# Altium footprint library PcbLib1.PcbLib: 8 footprints
Each footprint in its own frame and in the unit in brackets; x right, y up, seen from the top. Pads: shape width x height; smd on the part's side, far side on the other; paste and mask are expansions set on the pad; w line width, h text height; cw(c..) or ccw(c..) is an arc to the next point about the centre after c.
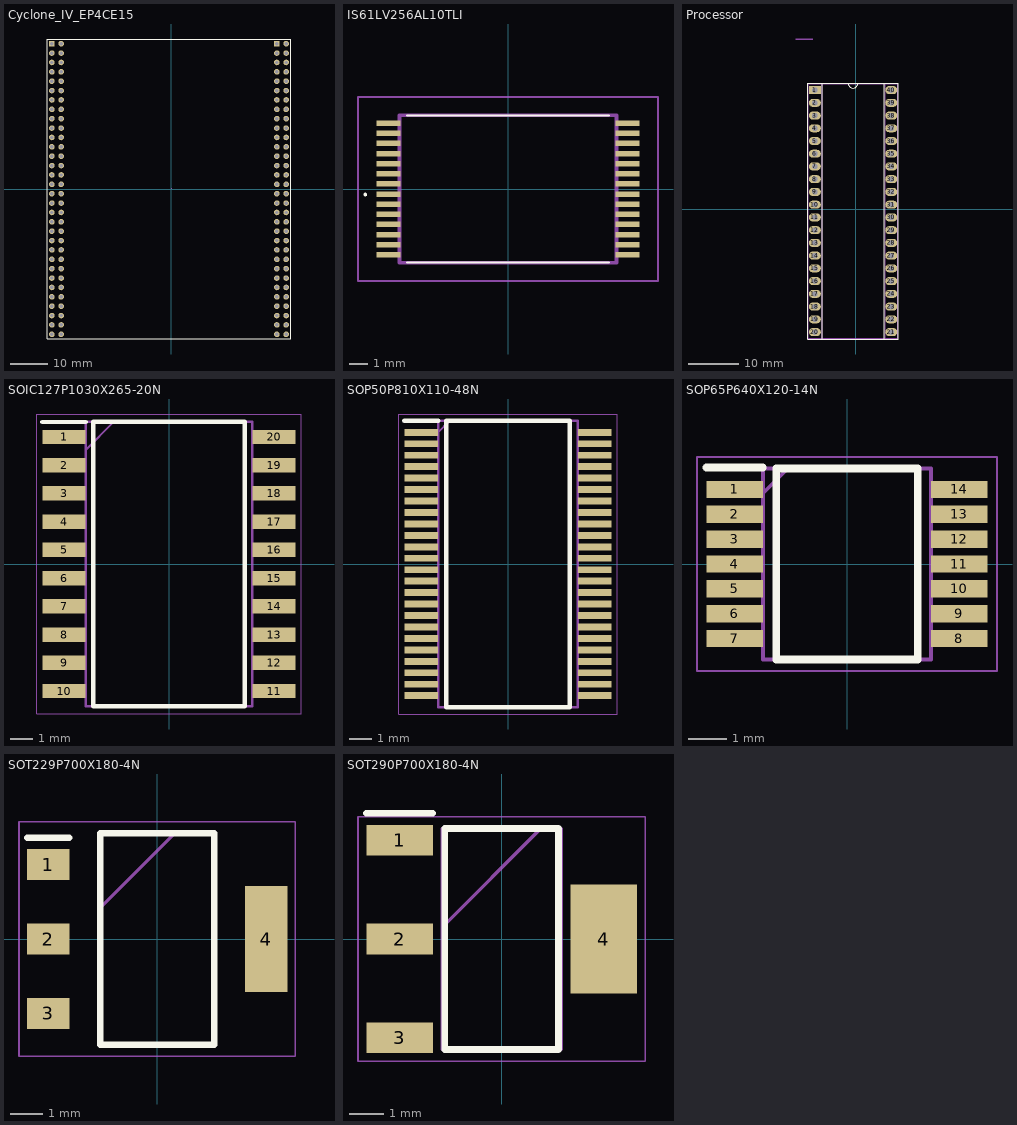
[diagram p0: the footprints below, top view; thin cyan lines are the x and y axes]

## Cyclone_IV_EP4CE15 [mil]
pads (128):
  rect 60x60 hole 36: 1(-1275,1555) 65(1125,1555)
  round 60 hole 36: 2(-1175,1555) 3(-1275,1455) 4(-1175,1455) 5(-1275,1355) 6(-1175,1355) 7(-1275,1255) 8(-1175,1255) 9(-1275,1155) 10(-1175,1155) 11(-1275,1055) 12(-1175,1055) 13(-1275,955) 14(-1175,955) 15(-1275,855) 16(-1175,855) 17(-1275,755) 18(-1175,755) 19(-1275,655) 20(-1175,655) 21(-1275,555) 22(-1175,555) 23(-1275,455) 24(-1175,455) 25(-1275,355) 26(-1175,355) 27(-1275,255) 28(-1175,255) 29(-1275,155) 30(-1175,155) 31(-1275,55) 32(-1175,55) 33(-1275,-45) 34(-1175,-45) 35(-1275,-145) 36(-1175,-145) 37(-1275,-245) 38(-1175,-245) 39(-1275,-345) 40(-1175,-345) 41(-1275,-445) 42(-1175,-445) 43(-1275,-545) 44(-1175,-545) 45(-1275,-645) 46(-1175,-645) 47(-1275,-745) 48(-1175,-745) 49(-1275,-845) 50(-1175,-845) 51(-1275,-945) 52(-1175,-945) 53(-1275,-1045) 54(-1175,-1045) 55(-1275,-1145) 56(-1175,-1145) 57(-1275,-1245) 58(-1175,-1245) 59(-1275,-1345) 60(-1175,-1345) 61(-1275,-1445) 62(-1175,-1445) 63(-1275,-1545) 64(-1175,-1545) 66(1225,1555) 67(1125,1455) 68(1225,1455) 69(1125,1355) 70(1225,1355) 71(1125,1255) 72(1225,1255) 73(1125,1155) 74(1225,1155) 75(1125,1055) 76(1225,1055) 77(1125,955) 78(1225,955) 79(1125,855) 80(1225,855) 81(1125,755) 82(1225,755) 83(1125,655) 84(1225,655) 85(1125,555) 86(1225,555) 87(1125,455) 88(1225,455) 89(1125,355) 90(1225,355) 91(1125,255) 92(1225,255) 93(1125,155) 94(1225,155) 95(1125,55) 96(1225,55) 97(1125,-45) 98(1225,-45) 99(1125,-145) 100(1225,-145) 101(1125,-245) 102(1225,-245) 103(1125,-345) 104(1225,-345) 105(1125,-445) 106(1225,-445) 107(1125,-545) 108(1225,-545) 109(1125,-645) 110(1225,-645) 111(1125,-745) 112(1225,-745) 113(1125,-845) 114(1225,-845) 115(1125,-945) 116(1225,-945) 117(1125,-1045) 118(1225,-1045) 119(1125,-1145) 120(1225,-1145) 121(1125,-1245) 122(1225,-1245) 123(1125,-1345) 124(1225,-1345) 125(1125,-1445) 126(1225,-1445) 127(1125,-1545) 128(1225,-1545)
Top Overlay:
  lines w10: -1325,-1595 1275,-1595 1275,1605 -1325,1605 -1325,-1595
Mechanical 15:
  lines w0.1: 4,9 6,11

## IS61LV256AL10TLI [mm]
pads (28):
  rect 1.3x0.3 smd: 1(-6.5,-0.275) 2(-6.5,-0.825) 3(-6.5,-1.375) 4(-6.5,-1.925) 5(-6.5,-2.475) 6(-6.5,-3.025) 7(-6.5,-3.575) 8(6.5,-3.575) 9(6.5,-3.025) 10(6.5,-2.475) 11(6.5,-1.925) 12(6.5,-1.375) 13(6.5,-0.825) 14(6.5,-0.275) 15(6.5,0.275) 16(6.5,0.825) 17(6.5,1.375) 18(6.5,1.925) 19(6.5,2.475) 20(6.5,3.025) 21(6.5,3.575) 22(-6.5,3.575) 23(-6.5,3.025) 24(-6.5,2.475) 25(-6.5,1.925) 26(-6.5,1.375) 27(-6.5,0.825) 28(-6.5,0.275)
Top Overlay:
  lines w0.1: -5.5,-4 5.5,-4 ; -5.5,4 5.5,4 ; -7.8,-0.3 ccw(c-7.75,-0.3) -7.7,-0.3 ccw(c-7.75,-0.3) -7.8,-0.3
Mechanical 13:
  lines w0.2: -5.9,-4 -5.9,4 5.9,4 5.9,-4 -5.9,-4
Mechanical 15:
  lines w0.1: -8.15,-5 -8.15,5 8.15,5 8.15,-5 -8.15,-5
3D body "IS61LV256AL-10TLI.stp": height 1.3, standoff 0, extent -5.9,-4 5.9,4

## Processor [mm]
pads (40):
  rect 2.4x1.6 hole 1 slot 1.005 at 0 deg: 1(-8.128,23.725)
  oval 2.4x1.6 hole 1 slot 1.005 at 0 deg: 2(-8.128,21.185) 3(-8.128,18.645) 4(-8.128,16.105) 5(-8.128,13.565) 6(-8.128,11.025) 7(-8.128,8.485) 8(-8.128,5.945) 9(-8.128,3.405) 10(-8.128,0.865) 11(-8.128,-1.675) 12(-8.128,-4.215) 13(-8.128,-6.755) 14(-8.128,-9.295) 15(-8.128,-11.835) 16(-8.128,-14.375) 17(-8.128,-16.915) 18(-8.128,-19.455) 19(-8.128,-21.995) 20(-8.128,-24.535) 21(7.112,-24.535) 22(7.112,-21.995) 23(7.112,-19.455) 24(7.112,-16.915) 25(7.112,-14.375) 26(7.112,-11.835) 27(7.112,-9.295) 28(7.112,-6.755) 29(7.112,-4.215) 30(7.112,-1.675) 31(7.112,0.865) 32(7.112,3.405) 33(7.112,5.945) 34(7.112,8.485) 35(7.112,11.025) 36(7.112,13.565) 37(7.112,16.105) 38(7.112,18.645) 39(7.112,21.185) 40(7.112,23.725)
Top Overlay:
  lines w0.12: -1.509,25.115 -6.688,25.115 -6.688,-25.924 5.672,-25.924 5.672,25.115 0.493,25.115 ; -1.508,25.115 ccw(c-0.508,25.115) 0.492,25.115 ; -9.517,-25.924 -9.517,25.115 8.501,25.115 8.501,-25.924 -9.517,-25.924
Mechanical 15:
  lines w0.1: -9.398,-25.805 -9.398,24.995 8.382,24.995 8.382,-25.805 -9.398,-25.805 ; -6.873,24.995 5.776,24.995 5.776,-25.805 -6.795,-25.805 -6.795,24.917 -6.873,24.995
  lines w0.254: -11.925,33.909 -8.496,33.909
3D body "User Library-DIP-40P-M02.STEP": height 5, standoff -3, extent -8.124,-26.746 7.366,25.654

## SOIC127P1030X265-20N [mm]
pads (20):
  rect 1.95x0.65 smd: 1(-4.725,5.715) 2(-4.725,4.445) 3(-4.725,3.175) 4(-4.725,1.905) 5(-4.725,0.635) 6(-4.725,-0.635) 7(-4.725,-1.905) 8(-4.725,-3.175) 9(-4.725,-4.445) 10(-4.725,-5.715) 11(4.725,-5.715) 12(4.725,-4.445) 13(4.725,-3.175) 14(4.725,-1.905) 15(4.725,-0.635) 16(4.725,0.635) 17(4.725,1.905) 18(4.725,3.175) 19(4.725,4.445) 20(4.725,5.715)
Top Overlay:
  lines w0.2: -5.7,6.39 -3.75,6.39 ; -3.4,-6.4 -3.4,6.4 3.4,6.4 3.4,-6.4 -3.4,-6.4
Mechanical 13:
  lines w0.1: -3.75,5.13 -2.48,6.4 ; -3.75,-6.4 -3.75,6.4 3.75,6.4 3.75,-6.4 -3.75,-6.4
Mechanical 15:
  lines w0.05: -5.95,-6.75 -5.95,6.75 5.95,6.75 5.95,-6.75 -5.95,-6.75
3D body "SN74HC574DW.stp": height 2.65, standoff 0, extent -5.15,-6.4 5.15,6.4

## SOP50P810X110-48N [mm]
pads (48):
  rect 1.475x0.3 smd: 1(-3.788,5.75) 2(-3.788,5.25) 3(-3.788,4.75) 4(-3.788,4.25) 5(-3.788,3.75) 6(-3.788,3.25) 7(-3.788,2.75) 8(-3.788,2.25) 9(-3.788,1.75) 10(-3.788,1.25) 11(-3.788,0.75) 12(-3.788,0.25) 13(-3.788,-0.25) 14(-3.788,-0.75) 15(-3.788,-1.25) 16(-3.788,-1.75) 17(-3.788,-2.25) 18(-3.788,-2.75) 19(-3.788,-3.25) 20(-3.788,-3.75) 21(-3.788,-4.25) 22(-3.788,-4.75) 23(-3.788,-5.25) 24(-3.788,-5.75) 25(3.788,-5.75) 26(3.788,-5.25) 27(3.788,-4.75) 28(3.788,-4.25) 29(3.788,-3.75) 30(3.788,-3.25) 31(3.788,-2.75) 32(3.788,-2.25) 33(3.788,-1.75) 34(3.788,-1.25) 35(3.788,-0.75) 36(3.788,-0.25) 37(3.788,0.25) 38(3.788,0.75) 39(3.788,1.25) 40(3.788,1.75) 41(3.788,2.25) 42(3.788,2.75) 43(3.788,3.25) 44(3.788,3.75) 45(3.788,4.25) 46(3.788,4.75) 47(3.788,5.25) 48(3.788,5.75)
Top Overlay:
  lines w0.2: -4.525,6.25 -3.05,6.25 ; -2.7,-6.25 -2.7,6.25 2.7,6.25 2.7,-6.25 -2.7,-6.25
Mechanical 13:
  lines w0.1: -3.05,5.75 -2.55,6.25 ; -3.05,-6.25 -3.05,6.25 3.05,6.25 3.05,-6.25 -3.05,-6.25
Mechanical 15:
  lines w0.05: -4.775,-6.55 -4.775,6.55 4.775,6.55 4.775,-6.55 -4.775,-6.55
3D body "MC74LCX16244DTG.stp": height 1.1, standoff 0, extent -4.05,-6.25 4.05,6.25

## SOP65P640X120-14N [mm]
pads (14):
  rect 1.475x0.45 smd: 1(-2.938,1.95) 2(-2.938,1.3) 3(-2.938,0.65) 4(-2.938,0) 5(-2.938,-0.65) 6(-2.938,-1.3) 7(-2.938,-1.95) 8(2.938,-1.95) 9(2.938,-1.3) 10(2.938,-0.65) 11(2.938,0) 12(2.938,0.65) 13(2.938,1.3) 14(2.938,1.95)
Top Overlay:
  lines w0.2: -3.675,2.525 -2.2,2.525 ; -1.85,-2.5 -1.85,2.5 1.85,2.5 1.85,-2.5 -1.85,-2.5
Mechanical 13:
  lines w0.1: -2.2,1.85 -1.55,2.5 ; -2.2,-2.5 -2.2,2.5 2.2,2.5 2.2,-2.5 -2.2,-2.5
Mechanical 15:
  lines w0.05: -3.925,-2.8 -3.925,2.8 3.925,2.8 3.925,-2.8 -3.925,-2.8
3D body "SN74LV08ATPWRG4Q1.stp": height 1.2, standoff 0, extent -3.2,-2.5 3.2,2.5

## SOT229P700X180-4N [mm]
pads (4):
  rect 1.3x0.95 smd: 1(-3.35,2.29) 2(-3.35,0) 3(-3.35,-2.29)
  rect 1.3x3.25 smd: 4(3.35,0)
Top Overlay:
  lines w0.2: -4,3.115 -2.7,3.115 ; -1.752,-3.252 -1.752,3.252 1.752,3.252 1.752,-3.252 -1.752,-3.252
Mechanical 13:
  lines w0.1: -1.752,0.962 0.538,3.252 ; -1.752,-3.252 -1.752,3.252 1.752,3.252 1.752,-3.252 -1.752,-3.252
Mechanical 15:
  lines w0.05: -4.25,-3.605 -4.25,3.605 4.25,3.605 4.25,-3.605 -4.25,-3.605
3D body "AMS1117-3.3.stp": height 1.8, standoff 0, extent -3.5,-3.253 3.5,3.253

## SOT290P700X180-4N [mm]
pads (4):
  rect 1.95x0.9 smd: 1(-3,2.9) 2(-3,0) 3(-3,-2.9)
  rect 1.95x3.2 smd: 4(3,0)
Top Overlay:
  lines w0.2: -3.975,3.7 -2.025,3.7 ; -1.675,-3.25 -1.675,3.25 1.675,3.25 1.675,-3.25 -1.675,-3.25
Mechanical 13:
  lines w0.1: -1.75,0.35 1.15,3.25 ; -1.75,-3.25 -1.75,3.25 1.75,3.25 1.75,-3.25 -1.75,-3.25
Mechanical 15:
  lines w0.05: -4.225,-3.6 -4.225,3.6 4.225,3.6 4.225,-3.6 -4.225,-3.6
3D body "AMS1117-5.0.stp": height 1.8, standoff 0, extent -3.5,-3.25 3.5,3.25